# Altium footprint library RAM.PcbLib: 1 footprints
Each footprint in its own frame and in the unit in brackets; x right, y up, seen from the top. Pads: shape width x height; smd on the part's side, far side on the other; paste and mask are expansions set on the pad; w line width, h text height; cw(c..) or ccw(c..) is an arc to the next point about the centre after c.
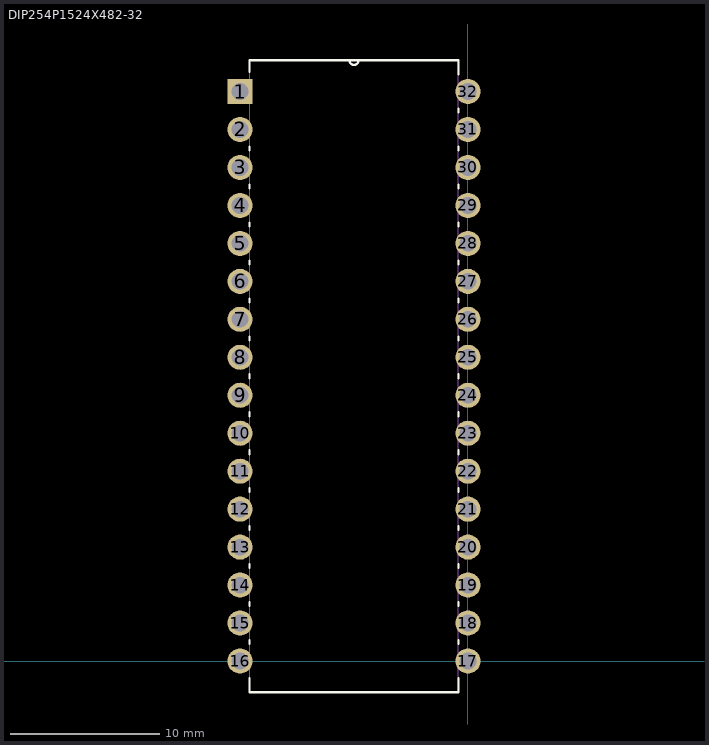
[diagram p0: the footprint, top view; thin cyan lines are the x and y axes]

## DIP254P1524X482-32 [mil]
pads (32):
  rect 66x66 hole 44: 1(-600,1500)
  round 66 hole 44: 2(-600,1400) 3(-600,1300) 4(-600,1200) 5(-600,1100) 6(-600,1000) 7(-600,900) 8(-600,800) 9(-600,700) 10(-600,600) 11(-600,500) 12(-600,400) 13(-600,300) 14(-600,200) 15(-600,100) 16(-600,0) 17(0,0) 18(0,100) 19(0,200) 20(0,300) 21(0,400) 22(0,500) 23(0,600) 24(0,700) 25(0,800) 26(0,900) 27(0,1000) 28(0,1100) 29(0,1200) 30(0,1300) 31(0,1400) 32(0,1500)
Top Overlay:
  lines w6: -575,-45 -575,-82 -25,-82 -25,-45 ; -575,45 -575,55 ; -575,145 -575,155 ; -575,245 -575,255 ; -575,345 -575,355 ; -575,445 -575,455 ; -575,545 -575,555 ; -575,645 -575,655 ; -575,745 -575,755 ; -575,845 -575,855 ; -575,945 -575,955 ; -575,1045 -575,1055 ; -575,1145 -575,1155 ; -575,1245 -575,1255 ; -575,1345 -575,1355 ; -575,1552 -575,1582 -312,1582 ; -25,45 -25,55 ; -25,145 -25,155 ; -25,245 -25,255 ; -25,345 -25,355 ; -25,445 -25,455 ; -25,545 -25,555 ; -25,645 -25,655 ; -25,745 -25,755 ; -25,845 -25,855 ; -25,945 -25,955 ; -25,1045 -25,1055 ; -25,1145 -25,1155 ; -25,1245 -25,1255 ; -25,1345 -25,1355 ; -25,1445 -25,1455 ; -25,1545 -25,1582 -288,1582 ; -312,1582 ccw(c-300,1582) -288,1582 ; -312,1582 -288,1582
Mechanical 13:
  lines w0: -312,1582 ccw(c-300,1582) -288,1582 ; -312,1582 -288,1582 ; -312,1582 -575,1582 -575,-82 -25,-82 -25,1582 -288,1582 ; -622,-22 -622,22 -575,22 -575,-22 -622,-22 ; -622,78 -622,122 -575,122 -575,78 -622,78 ; -622,178 -622,222 -575,222 -575,178 -622,178 ; -622,278 -622,322 -575,322 -575,278 -622,278 ; -622,378 -622,422 -575,422 -575,378 -622,378 ; -622,478 -622,522 -575,522 -575,478 -622,478 ; -622,578 -622,622 -575,622 -575,578 -622,578 ; -622,678 -622,722 -575,722 -575,678 -622,678 ; -622,778 -622,822 -575,822 -575,778 -622,778 ; -622,878 -622,922 -575,922 -575,878 -622,878 ; -622,978 -622,1022 -575,1022 -575,978 -622,978 ; -622,1078 -622,1122 -575,1122 -575,1078 -622,1078 ; -622,1178 -622,1222 -575,1222 -575,1178 -622,1178 ; -622,1278 -622,1322 -575,1322 -575,1278 -622,1278 ; -622,1378 -622,1422 -575,1422 -575,1378 -622,1378 ; -622,1478 -622,1522 -575,1522 -575,1478 -622,1478 ; -25,-22 -25,22 22,22 22,-22 -25,-22 ; -25,78 -25,122 22,122 22,78 -25,78 ; -25,178 -25,222 22,222 22,178 -25,178 ; -25,278 -25,322 22,322 22,278 -25,278 ; -25,378 -25,422 22,422 22,378 -25,378 ; -25,478 -25,522 22,522 22,478 -25,478 ; -25,578 -25,622 22,622 22,578 -25,578 ; -25,678 -25,722 22,722 22,678 -25,678 ; -25,778 -25,822 22,822 22,778 -25,778 ; -25,878 -25,922 22,922 22,878 -25,878 ; -25,978 -25,1022 22,1022 22,978 -25,978 ; -25,1078 -25,1122 22,1122 22,1078 -25,1078 ; -25,1178 -25,1222 22,1222 22,1178 -25,1178 ; -25,1278 -25,1322 22,1322 22,1278 -25,1278 ; -25,1378 -25,1422 22,1422 22,1378 -25,1378 ; -25,1478 -25,1522 22,1522 22,1478 -25,1478
3D body "DIP-32P-M01.step": height 376.85, standoff 61.89, extent -604.92,-45.28 4.92,1545.28
3D body "dip32_socket.stp": height 180, standoff -111.34, extent -645,-49.21 49.49,1549.21